# Altium footprint library Archim_TF_Top.PcbLib: 2 footprints
Each footprint in its own frame and in the unit in brackets; x right, y up, seen from the top. Pads: shape width x height; smd on the part's side, far side on the other; paste and mask are expansions set on the pad; w line width, h text height; cw(c..) or ccw(c..) is an arc to the next point about the centre after c.
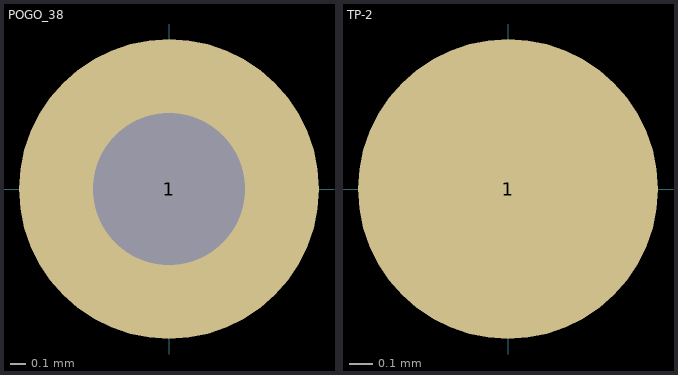
[diagram p0: the footprints below, top view; thin cyan lines are the x and y axes]

## POGO_38 [mil]
pads (1):
  round 75 hole 38: 1(0,0)

## TP-2 [mil]
pads (1):
  round 50 smd paste-78.74: 1(0,0)
3D body: height 1, standoff 0, extent -24.81,-24.96 25,24.95